# Altium schematic symbol library Schlib1.SchLib: 34 symbols
Pins are listed as number, name and electrical type; pins without a type are passive.

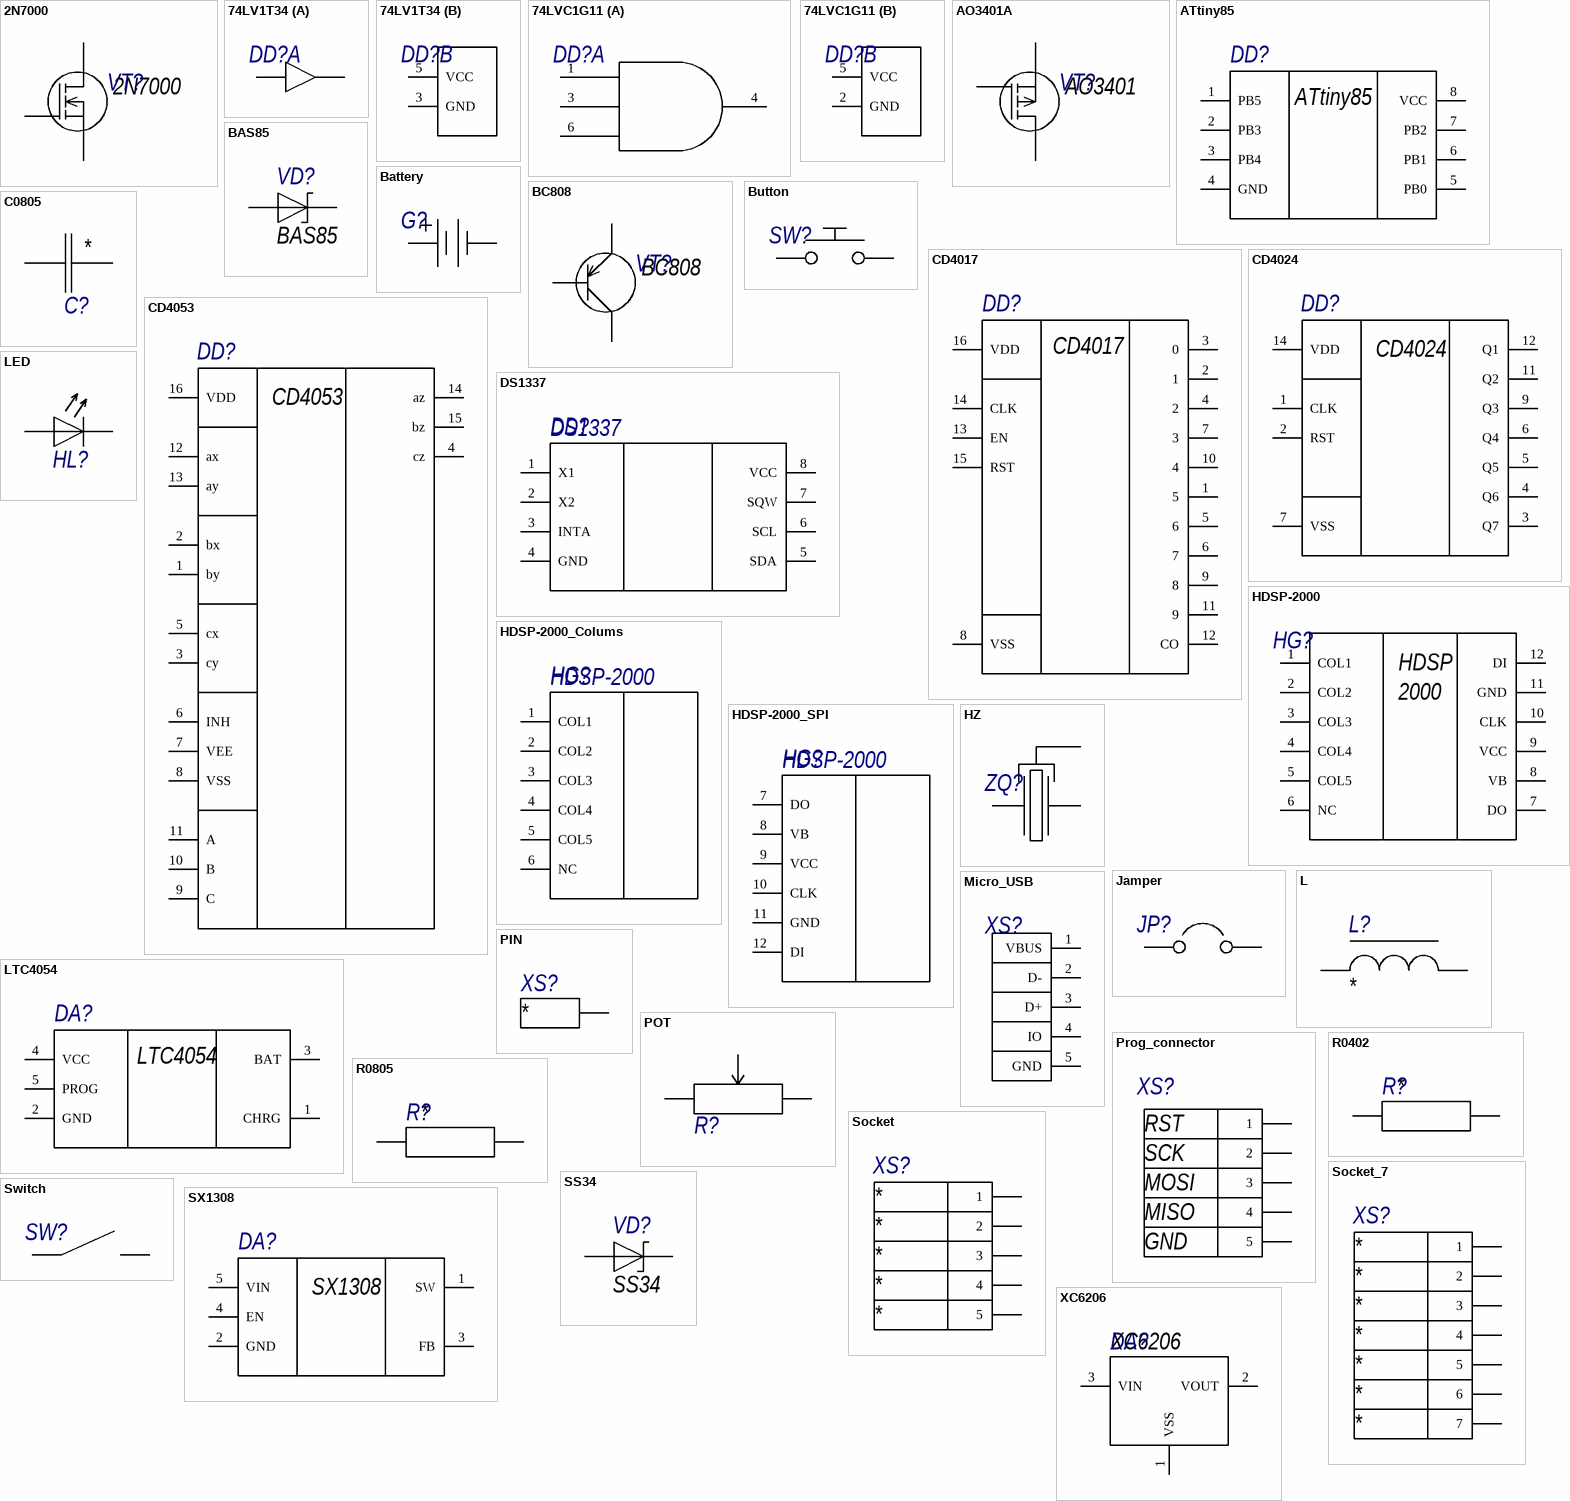
[diagram p0: symbols 2N7000 to XC6206]

## 2N7000
designator VT?  Name: 2N7000  (hidden comment: *)
footprint SOT23-3 (SOT23, 3-Leads, Body 2,90x2,30mm, Pitch 0,95mm, IPC Medium Density)
pins: 1 G, 2 S, 3 D

## 74LV1T34
designator DD?  (value not drawn)
footprint SOT23-5 (SOT23, 5-Leads, Body 2,85x2,80mm, Pitch 0,95mm, IPC Medium Density)
part A pins: 2 IN, 4 OUT
part B pins: 3 GND, 5 VCC

## 74LVC1G11
designator DD?  (value not drawn)
footprint SOT23-6 (SOT23, 6-Leads, Body 2,85x2,80mm, Pitch 0,95mm, IPC Medium Density)
part A pins: 1 A, 3 B, 4 Y, 6 C
part B pins: 2 GND, 5 VCC

## AO3401A
designator VT?  Name: AO3401  (hidden comment: *)
footprint SOT23-3 (SOT23, 3-Leads, Body 2,90x2,30mm, Pitch 0,95mm, IPC Medium Density)
pins: 1 G, 2 S, 3 D

## ATtiny85
designator DD?  Name: ATtiny85  (hidden comment: *)
footprint SOIC-8-ATtiny85 (SOIC, 8-Leads, Body 5,24x5,29mm, Pitch 1,27mm, IPC Medium Density)
pins: 1 PB5, 2 PB3, 3 PB4, 4 GND, 5 PB0, 6 PB1, 7 PB2, 8 VCC

## BAS85
designator VD?  Name: BAS85  (hidden comment: *)
footprint DIOD_MELF (MELF Diode, 2-Leads, Body 3,50x1,53mm, IPC Medium Density)
pins: 1 K, 2 A

## Battery
designator G?  (value not drawn)
footprint BATTERY
pins: 1, 2

## BC808
designator VT?  Name: BC808  (hidden comment: *)
footprint SOT23-3 (SOT23, 3-Leads, Body 2,90x2,30mm, Pitch 0,95mm, IPC Medium Density)
pins: 1 B, 2 E, 3 C

## Button
designator SW?  (value not drawn)
footprint BUTTON
pins: 1, 2

## C0805
designator C?
Value: *
footprint CHIP-0805 (Chip Resistor, 2-Leads, Body 2,00x1,25mm, IPC Medium Density)
pins: 1, 2

## CD4017
designator DD?  Name: CD4017  (hidden comment: *)
footprint SOIC-16 (SOIC, 16-Leads, Body 9,90x3,90mm, Pitch 1,27mm, IPC Medium Density)
pins: 1 5, 2 1, 3 0, 4 2, 5 6, 6 7, 7 3, 8 VSS, 9 8, 10 4, 11 9, 12 CO, 13 EN, 14 CLK, 15 RST, 16 VDD

## CD4024
designator DD?  Name: CD4024  (hidden comment: *)
footprint SOIC-14 (SOIC, 14-Leads, Body 8,65x3,90mm, Pitch 1,27mm, IPC Medium Density)
pins: 1 CLK, 2 RST, 3 Q7, 4 Q6, 5 Q5, 6 Q4, 7 VSS, 9 Q3, 11 Q2, 12 Q1, 14 VDD

## CD4053
designator DD?  Name: CD4053  (hidden comment: *)
footprint SOIC-16 (SOIC, 16-Leads, Body 9,90x3,90mm, Pitch 1,27mm, IPC Medium Density)
pins: 1 by, 2 bx, 3 cy, 4 cz, 5 cx, 6 INH, 7 VEE, 8 VSS, 9 C, 10 B, 11 A, 12 ax, 13 ay, 14 az, 15 bz, 16 VDD

## DS1337
designator DD?  Name: DS1337  (hidden comment: *)
Manufacturer: Maxim
footprint SOIC-8 (SOIC, 8-Leads, Body 4,88x3,90mm, Pitch 1,27mm, IPC Medium Density)
pins: 1 X1, 2 X2, 3 INTA, 4 GND, 5 SDA, 6 SCL, 7 SQW, 8 VCC

## HDSP-2000
designator HG?  (value not drawn)
Manufacturer: HP; Name: HDSP-2000
pins: 1 COL1, 2 COL2, 3 COL3, 4 COL4, 5 COL5, 6 NC, 7 DO, 8 VB, 9 VCC, 10 CLK, 11 GND, 12 DI
text: HDSP; 2000

## HDSP-2000_Colums
designator HG?  Name: HDSP-2000  (hidden comment: *)
Manufacturer: HP
footprint HDSP-2000_COL
pins: 1 COL1, 2 COL2, 3 COL3, 4 COL4, 5 COL5, 6 NC

## HDSP-2000_SPI
designator HG?  Name: HDSP-2000  (hidden comment: *)
Manufacturer: HP
footprint HDSP-2000_SPI
pins: 7 DO, 8 VB, 9 VCC, 10 CLK, 11 GND, 12 DI

## HZ
designator ZQ?  (value not drawn)
footprint HZ
pins: 1, 2, 3

## Jamper
designator JP?  (value not drawn)
footprint JAMPER
pins: 1, 2

## L
designator L?
Value: *
footprint L_SMD
pins: 1, 2

## LED
designator HL?  (value not drawn)
Name: LED
footprint LED_1
pins: 1 K, 2 A

## LTC4054
designator DA?  Name: LTC4054  (hidden comment: *)
footprint SOT23-5 (SOT23, 5-Leads, Body 2,85x2,80mm, Pitch 0,95mm, IPC Medium Density)
pins: 1 CHRG, 2 GND, 3 BAT, 4 VCC, 5 PROG

## Micro_USB
designator XS?  (value not drawn)
footprint Micro_USB
pins: 1 VBUS, 2 D-, 3 D+, 4 IO, 5 GND

## PIN
designator XS?
Name: *
footprint PIN
pins: 1

## POT
designator R?  (value not drawn)
Value: *
pins: 1, 2, 3

## Prog_connector
designator XS?  (value not drawn)
footprint Prog_connector
pins: 1, 2, 3, 4, 5
text: RST; SCK; MOSI; MISO; GND

## R0402
designator R?
Value: *
footprint CHIP-0402 (Chip Resistor, 2-Leads, Body 1,00x0,50mm, IPC Medium Density)
pins: 1, 2

## R0805
designator R?
Value: *
footprint CHIP-0805 (Chip Resistor, 2-Leads, Body 2,00x1,25mm, IPC Medium Density)
pins: 1, 2

## Socket
designator XS?
Pin5: *; Pin4: *; Pin3: *; Pin2: *; Pin1: *
footprint SOCKET
pins: 1, 2, 3, 4, 5

## Socket_7
designator XS?
Pin7: *; Pin6: *; Pin5: *; Pin4: *; Pin3: *; Pin2: *; Pin1: *
footprint SOCKET_7
pins: 1, 2, 3, 4, 5, 6, 7

## SS34
designator VD?  Name: SS34  (hidden comment: *)
footprint DIOD (Molded Diode, 2-Leads, Body 4,40x3,63mm, IPC Medium Density)
pins: 1 K, 2 A

## Switch
designator SW?  (value not drawn)
footprint SWITCH
pins: 1, 2

## SX1308
designator DA?  Name: SX1308  (hidden comment: *)
footprint SOT23-6 (SOT23, 6-Leads, Body 2,85x2,80mm, Pitch 0,95mm, IPC Medium Density)
pins: 1 SW, 2 GND, 3 FB, 4 EN, 5 VIN

## XC6206
designator DA?  Name: XC6206  (hidden comment: *)
footprint SOT23-3 (SOT23, 3-Leads, Body 2,90x2,30mm, Pitch 0,95mm, IPC Medium Density)
pins: 1 VSS, 2 VOUT, 3 VIN